# EAGLE library part MAX14595ETAT (library MAX14595ETAT)
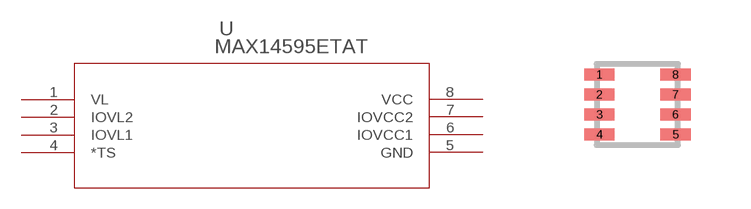
[diagram p0: symbol with the pads of 21-0487A; footprint 21-0487A]

Designator prefix U

## MAX14595ETAT (Description: Logic Level Translator 8-Pin TDFN T/R; Digi-Key_Part_Number: MAX14595ETA+TCT-ND; Digi-Key_Purchase_URL: https://www.digikey.ca/product-detail/en/maxim-integrated/MAX14595ETA-T/MAX14595ETA-TCT-ND/6166867?utm_source=snapeda&utm_medium=aggregator&utm_campaign=symbol; MF: Maxim Integrated; MP: MAX14595ETA+T; Package: TDFN-8 Maxim Integrated)  [21-0487A]
1  VL  pwr
2  IOVL2  pas
3  IOVL1  pas
4  *TS  pas
5  GND  pwr
6  IOVCC1  pas
7  IOVCC2  pas
8  VCC  pwr

## Footprint 21-0487A (pad centres in mm)
smd 0.762 x 0.305: 1 -0.953,0.75; 2 -0.953,0.25; 3 -0.953,-0.25; 4 -0.953,-0.75; 5 0.953,-0.75; 6 0.953,-0.25; 7 0.953,0.25; 8 0.953,0.75